# EAGLE library part STM32F446_LQFP64 (library jack_IC)
STM32 Microcontroller https://www.st.com/content/ccc/resource/technical/document/datasheet/65/cb/75/50/53/d6/48/24/DM00141306.pdf/files/DM00141306.pdf/jcr:content/translations/en.DM00141306.pdf
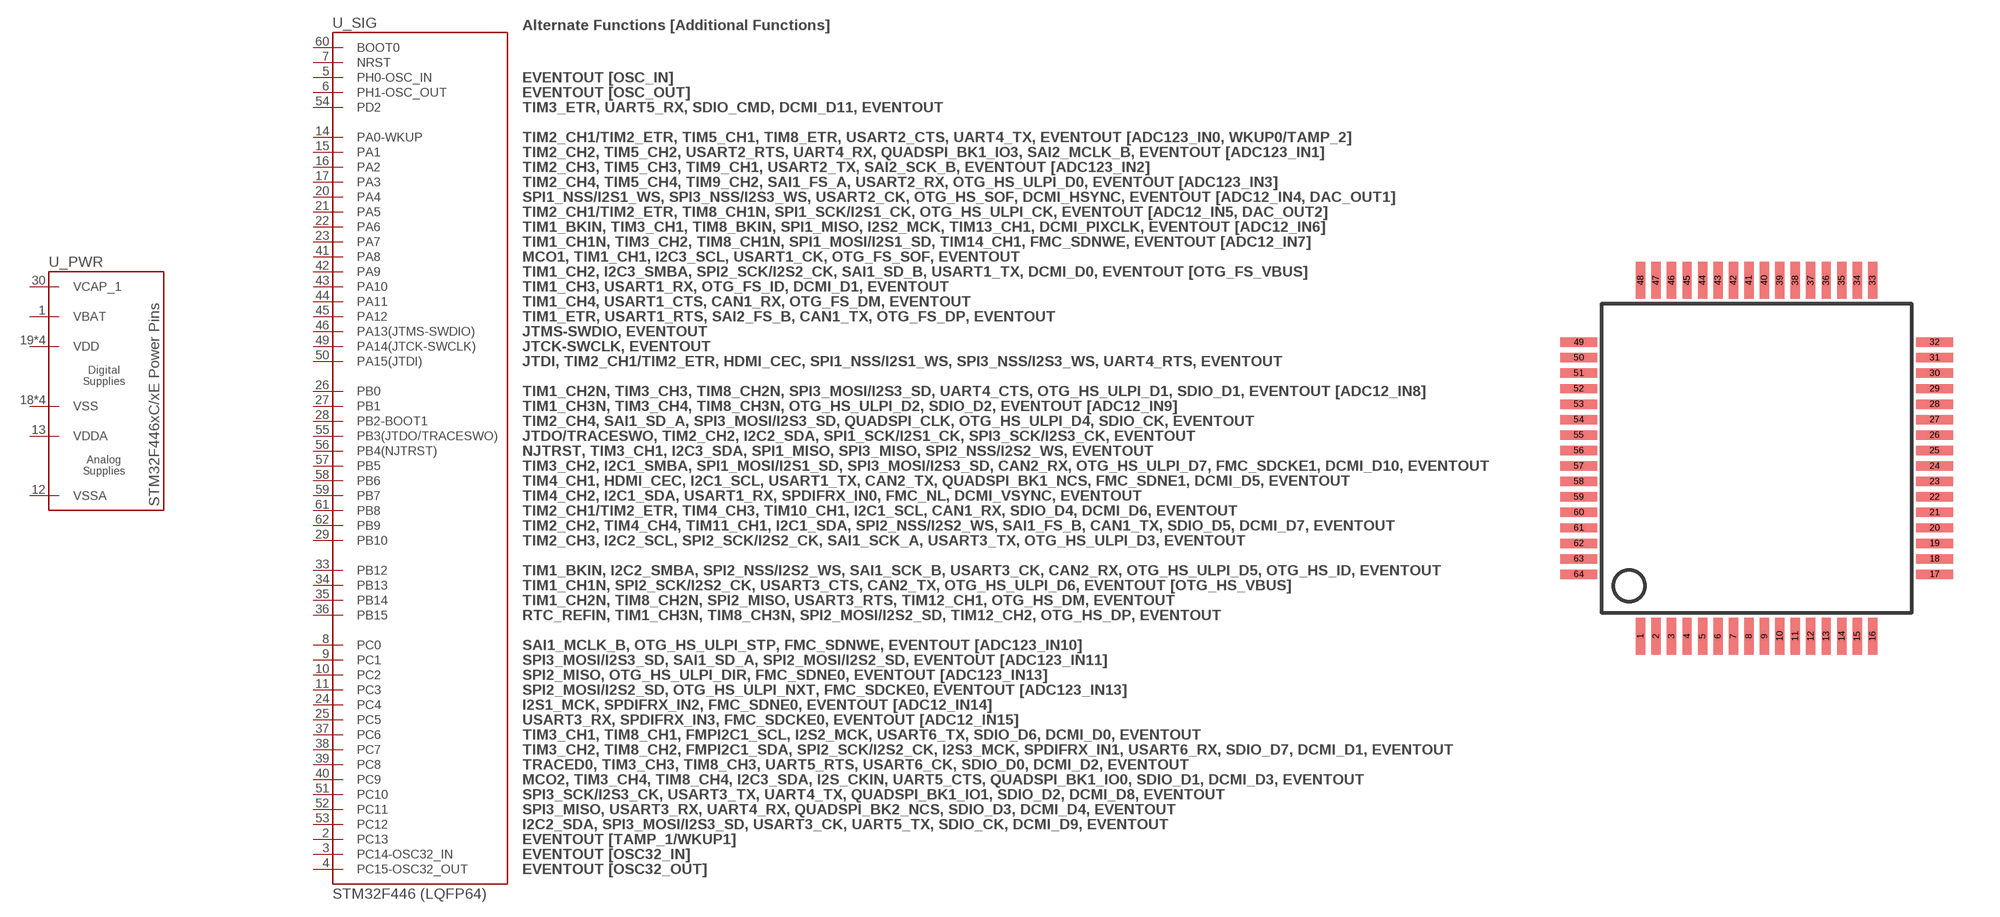
[diagram p12: symbol with the pads of LQFP64; footprint LQFP64]

Designator prefix U; gates _SIG=STM32F446_LQFP64_SIGS _PWR=STM32F446_LQFP64_PWR

## STM32F446_LQFP64  [LQFP64]
1  _PWR:VBAT
2  _SIG:PC13
3  _SIG:PC14-OSC32_IN
4  _SIG:PC15-OSC32_OUT
5  _SIG:PH0-OSC_IN
6  _SIG:PH1-OSC_OUT
7  _SIG:NRST
8  _SIG:PC0
9  _SIG:PC1
10  _SIG:PC2
11  _SIG:PC3
12  _PWR:VSSA
13  _PWR:VDDA
14  _SIG:PA0-WKUP
15  _SIG:PA1
16  _SIG:PA2
17  _SIG:PA3
18  _PWR:VSS
19  _PWR:VDD
20  _SIG:PA4
21  _SIG:PA5
22  _SIG:PA6
23  _SIG:PA7
24  _SIG:PC4
25  _SIG:PC5
26  _SIG:PB0
27  _SIG:PB1
28  _SIG:PB2-BOOT1
29  _SIG:PB10
30  _PWR:VCAP_1
31  _PWR:VSS
32  _PWR:VDD
33  _SIG:PB12
34  _SIG:PB13
35  _SIG:PB14
36  _SIG:PB15
37  _SIG:PC6
38  _SIG:PC7
39  _SIG:PC8
40  _SIG:PC9
41  _SIG:PA8
42  _SIG:PA9
43  _SIG:PA10
44  _SIG:PA11
45  _SIG:PA12
46  _SIG:PA13(JTMS-SWDIO)
47  _PWR:VSS
48  _PWR:VDD
49  _SIG:PA14(JTCK-SWCLK)
50  _SIG:PA15(JTDI)
51  _SIG:PC10
52  _SIG:PC11
53  _SIG:PC12
54  _SIG:PD2
55  _SIG:PB3(JTDO/TRACESWO)
56  _SIG:PB4(NJTRST)
57  _SIG:PB5
58  _SIG:PB6
59  _SIG:PB7
60  _SIG:BOOT0
61  _SIG:PB8
62  _SIG:PB9
63  _PWR:VSS
64  _PWR:VDD

## Footprint LQFP64 (pad centres in mm)
LQFP64 as according to STM (https://www.st.com/content/ccc/resource/technical/document/datasheet/65/cb/75/50/53/d6/48/24/DM00141306.pdf/files/DM00141306.pdf/jcr:content/translations/en.DM00141306.pdf)
smd 0.3 x 1.2: 1 -3.75,-5.75; 2 -3.25,-5.75; 3 -2.75,-5.75; 4 -2.25,-5.75; 5 -1.75,-5.75; 6 -1.25,-5.75; 7 -0.75,-5.75; 8 -0.25,-5.75; 9 0.25,-5.75; 10 0.75,-5.75; 11 1.25,-5.75; 12 1.75,-5.75; 13 2.25,-5.75; 14 2.75,-5.75; 15 3.25,-5.75; 16 3.75,-5.75; 33 3.75,5.75; 34 3.25,5.75; 35 2.75,5.75; 36 2.25,5.75; 37 1.75,5.75; 38 1.25,5.75; 39 0.75,5.75; 40 0.25,5.75; 41 -0.25,5.75; 42 -0.75,5.75; 43 -1.25,5.75; 44 -1.75,5.75; 45 -2.25,5.75; 46 -2.75,5.75; 47 -3.25,5.75; 48 -3.75,5.75
smd 1.2 x 0.3: 17 5.75,-3.75; 18 5.75,-3.25; 19 5.75,-2.75; 20 5.75,-2.25; 21 5.75,-1.75; 22 5.75,-1.25; 23 5.75,-0.75; 24 5.75,-0.25; 25 5.75,0.25; 26 5.75,0.75; 27 5.75,1.25; 28 5.75,1.75; 29 5.75,2.25; 30 5.75,2.75; 31 5.75,3.25; 32 5.75,3.75; 49 -5.75,3.75; 50 -5.75,3.25; 51 -5.75,2.75; 52 -5.75,2.25; 53 -5.75,1.75; 54 -5.75,1.25; 55 -5.75,0.75; 56 -5.75,0.25; 57 -5.75,-0.25; 58 -5.75,-0.75; 59 -5.75,-1.25; 60 -5.75,-1.75; 61 -5.75,-2.25; 62 -5.75,-2.75; 63 -5.75,-3.25; 64 -5.75,-3.75